# Altium footprint library CAPAE660X770_N.PcbLib: 1 footprints
Each footprint in its own frame and in the unit in brackets; x right, y up, seen from the top. Pads: shape width x height; smd on the part's side, far side on the other; paste and mask are expansions set on the pad; w line width, h text height; cw(c..) or ccw(c..) is an arc to the next point about the centre after c.
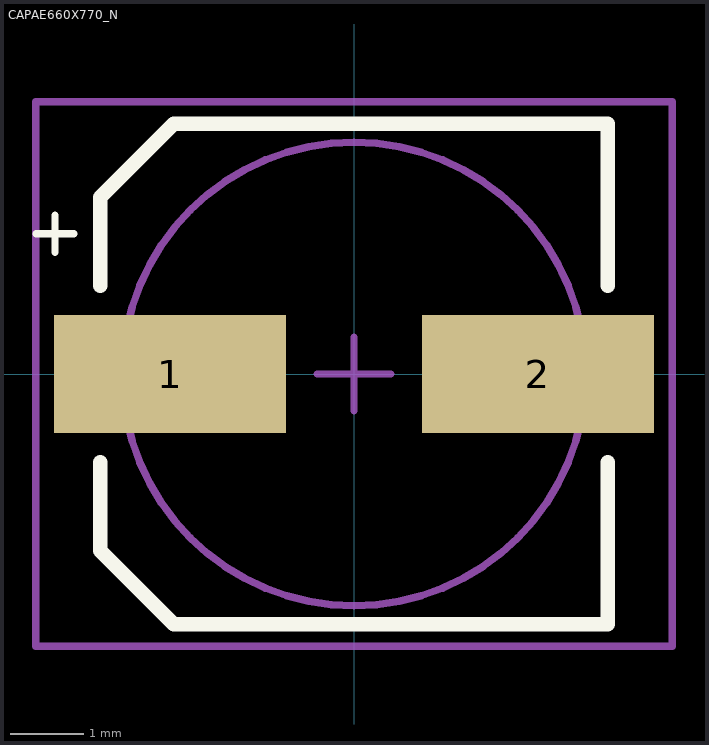
[diagram p0: the footprint, top view; thin cyan lines are the x and y axes]

## CAPAE660X770_N [mm] "Aluminum CAN Capacitor, EIA Case D8, Base 6.6x6.6mm, Height 7.7mm, IPC Medium Density"
height 7.7
pads (2):
  rect 3.15x1.6 smd: 1(-2.5,0) 2(2.5,0)
Top Overlay:
  lines w0.1: -4.318,1.905 -4.064,1.905 ; -4.064,1.651 -4.064,1.905 ; -4.064,2.159 -4.064,1.905 ; -3.81,1.905 -4.064,1.905
  lines w0.2: -3.45,-1.2 -3.45,-2.4 -2.45,-3.4 3.45,-3.4 3.45,-1.2 ; -3.45,1.2 -3.45,2.4 -2.45,3.4 3.45,3.4 3.45,1.2
Mechanical 13:
  circle w0.1: c0,0 r3.15
Mechanical 15:
  lines w0.1: -0.5,0 0.5,0 ; 0,-0.5 0,0.5 ; -4.325,-3.7 -4.325,3.7 4.325,3.7 4.325,-3.7 -4.325,-3.7
3D body: height 5.9, standoff 0, extent -3.65,-3.427 3.65,3.173